# Altium footprint library RES-2818.PcbLib: 1 footprints
Each footprint in its own frame and in the unit in brackets; x right, y up, seen from the top. Pads: shape width x height; smd on the part's side, far side on the other; paste and mask are expansions set on the pad; w line width, h text height; cw(c..) or ccw(c..) is an arc to the next point about the centre after c.
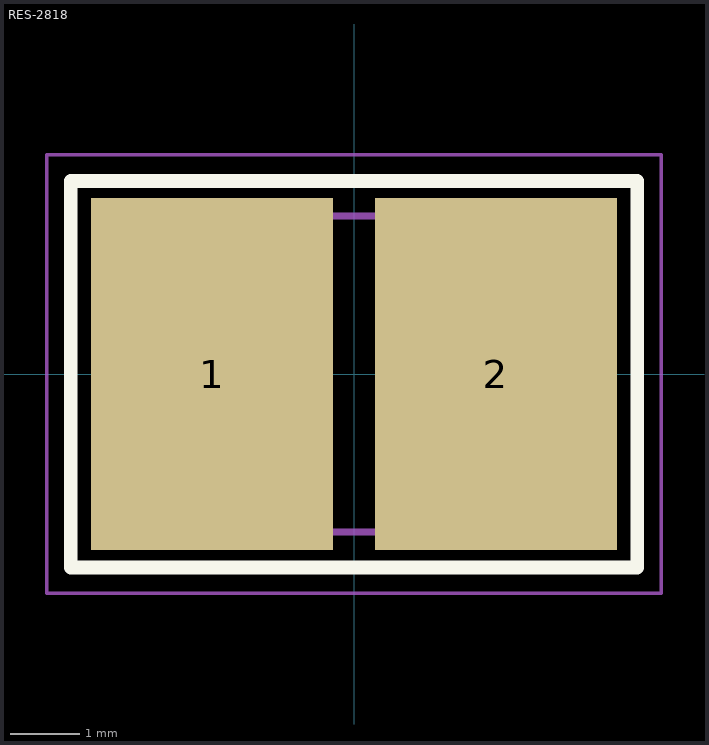
[diagram p0: the footprint, top view; thin cyan lines are the x and y axes]

## RES-2818 [mm] "Resistor 2818 footprint"
pads (2):
  rect 3.5x5.1 smd: 1(-2.055,0) 2(2.055,0)
Top Overlay:
  lines w0.2: -4.1,-2.8 4.1,-2.8 4.1,2.794 -4.1,2.794 -4.1,-2.8
Top Assembly:
  lines w0.1: -3.556,-2.286 -3.556,2.286 3.556,2.286 3.556,-2.286 -3.556,-2.286
Top Courtyard:
  lines w0.05: -4.445,-3.175 -4.445,3.175 4.445,3.175 4.445,-3.175 -4.445,-3.175
Top Designator:
  text ".Designator" at -4.998,-0.333 h1
3D body "WSHM2818.stp": height 1.35, standoff -0.15, extent -3.55,-2.3 3.55,2.3